# EAGLE library part 41.52.9.005.0010 (library 41.52.9.005.0010)
Relay: electromagnetic; DPDT; Ucoil: 5VDC; 8A/250VAC; 8A/30VDC; 15A Source: Datasheet <https://cdn.findernet.com/app/uploads/2020/09/13142529/S41EN.pdf>
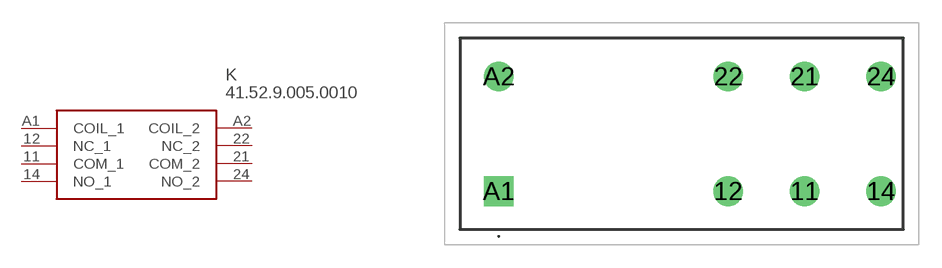
[diagram p0: symbol with the pads of 415290050010; footprint 415290050010]

Designator prefix K

## 41.52.9.005.0010 (Description: Relay: electromagnetic; DPDT; Ucoil: 5VDC; 8A/250VAC; 8A/30VDC; 15A; Height: 15.7mm; Manufacturer_Name: FINDER; Manufacturer_Part_Number: 41.52.9.005.0010)  [415290050010]
11  COM_1
12  NC_1
14  NO_1
21  COM_2
22  NC_2
24  NO_2
A1  COIL_1
A2  COIL_2

## Footprint 415290050010 (pad centres in mm)
41.52.9.005.0010-2
drill 1.3 pad 1.95: 11 20,0; 12 15,0; 14 25,0; 21 20,7.5; 22 15,7.5; 24 25,7.5; A2 0,7.5
drill 1.3 pad 1.95 square: A1 0,0